# Altium schematic symbol library LevelShift.SchLib: 2 symbols
Pins are listed as number, name and electrical type; pins without a type are passive.

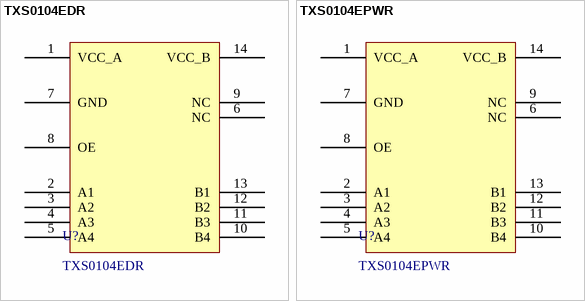
[diagram p0: symbols TXS0104EDR to TXS0104EPWR]

## TXS0104EDR
designator U?
Translation - Voltage Levels 4B Bidrctnl Vltg Lvl Trnsltr Opn Dran App; Manufacturer: Texas Instruments; Data Rate: 50 Mb/s; High Level Output Current: 24 mA; Propagation Delay Time: 260 ns; Supply Voltage - Max: 5.5 V; Supply Voltage - Min: 1.65 V; Low Level Output Current: 24 mA; Manufacturer Part Number: TXS0104EDR; Mount: SMD/SMT; Operating Temperature Max: + 85 C; Operating Temperature Min: - 40 C; Package / Case: SOIC-14; Packaging: Tape and Reel; Supplier 1: Mouser; Supplier 1 Part Number: 595-TXS0104EDR; Supplier 1 URL: https://www.mouser.vn/ProductDetail/Texas-Instruments/TXS0104EDR?qs=7kv20MEVUljeQYQBZTsYxg%3D%3D; Supplier 2: Digi-Key; Supplier 2 Part Number: N/A; Supplier 2 URL: N/A; Supplier 3: thegioiic; Supplier 3 Part Number: N/A; Supplier 3 URL: N/A; Value: TXS0104EDR; ComponentLink1Description: Datasheet; ComponentLink1URL: https://www.ti.com/general/docs/suppproductinfo.tsp?distId=26&gotoUrl=https://www.ti.com/lit/gpn/txs0104e; LCSC Part #: C79342
footprint TXS0104EDR (SOP, 14-Leads, Body 8.65x3.90mm, Pitch 1.27mm, IPC Medium Density)
pins: 1 VCC_A, 2 A1, 3 A2, 4 A3, 5 A4, 6 NC, 7 GND, 8 OE, 9 NC, 10 B4, 11 B3, 12 B2, 13 B1, 14 VCC_B

## TXS0104EPWR
designator U?
Translation - Voltage Levels 4B Bidrctnl Vltg Lvl Trnsltr Opn Dran App; Manufacturer: Texas Instruments; Data Rate: 50 Mb/s; High Level Output Current: 24 mA; Propagation Delay Time: 260 ns; Supply Voltage - Max: 5.5 V; Supply Voltage - Min: 1.65 V; Low Level Output Current: 24 mA; Manufacturer Part Number: TXS0104EPWR; Mount: SMD/SMT; Operating Temperature Max: + 85 C; Operating Temperature Min: - 40 C; Package / Case: TSSOP-14; Packaging: Tape and Reel; Supplier 1: Mouser; Supplier 1 Part Number: 595-TXS0104EPWR; Supplier 1 URL: https://www.mouser.vn/ProductDetail/Texas-Instruments/TXS0104EPWR?qs=7kv20MEVUlglsv2MH6ZndA%3D%3D; Supplier 2: Digi-Key; Supplier 2 Part Number: N/A; Supplier 2 URL: N/A; Supplier 3: thegioiic; Supplier 3 Part Number: N/A; Supplier 3 URL: N/A; Value: TXS0104EPWR; ComponentLink1Description: Datasheet; ComponentLink1URL: https://www.ti.com/general/docs/suppproductinfo.tsp?distId=26&gotoUrl=https://www.ti.com/lit/gpn/txs0104e; LCSC Part #: C44955
footprint TXS0104EPWR (TSOP, 14-Leads, Body 5.00x4.40mm, Pitch 0.65mm, IPC Medium Density)
pins: 1 VCC_A, 2 A1, 3 A2, 4 A3, 5 A4, 6 NC, 7 GND, 8 OE, 9 NC, 10 B4, 11 B3, 12 B2, 13 B1, 14 VCC_B